# EAGLE library part LMR14206 (library X893)
SIMPLE SWITCHER 42Vin, 0.6A Step-Down Voltage Regulator in SOT-23 www.ti.com/lit/ds/symlink/lmr14206.pdf
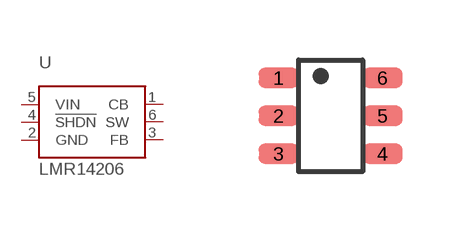
[diagram p186: symbol with the pads of SOT23-6; footprint SOT23-6]

Designator prefix U

## LMR14206  [SOT23-6]
1  CB  pas
2  GND  pwr
3  FB  pas
4  !SHDN  pas
5  VIN  pas
6  SW  pas

## Footprint SOT23-6 (pad centres in mm)
smd 1 x 0.5: 1 -1.3,0.95; 2 -1.3,0; 3 -1.3,-0.95; 4 1.3,-0.95; 5 1.3,0; 6 1.3,0.95